# Altium footprint library MX35LF4GE4AD.PcbLib: 1 footprints
Each footprint in its own frame and in the unit in brackets; x right, y up, seen from the top. Pads: shape width x height; smd on the part's side, far side on the other; paste and mask are expansions set on the pad; w line width, h text height; cw(c..) or ccw(c..) is an arc to the next point about the centre after c.
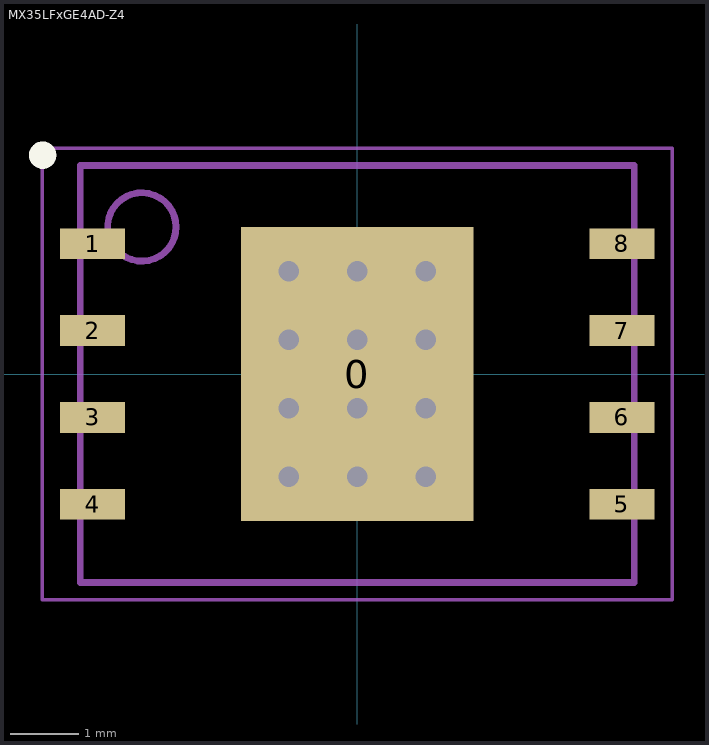
[diagram p0: the footprint, top view; thin cyan lines are the x and y axes]

## MX35LFxGE4AD-Z4 [mm] "SON127P800X80_HS-9N / SON, 8-Leads, Body 6.00x8.00mm, Pitch 1.27mm, Thermal Pad 4.30x3.40mm, IPC Medium Density"
height 0.8
pads (9):
  rect 3.4x4.3 smd paste-1.7: 0(0,0)
  rect 0.95x0.45 smd: 1(-3.87,1.905) 2(-3.87,0.635) 3(-3.87,-0.635) 4(-3.87,-1.905) 5(3.87,-1.905) 6(3.87,-0.635) 7(3.87,0.635) 8(3.87,1.905)
via -1,1.5 diameter 0.6 hole 0.3
via 0,1.5 diameter 0.6 hole 0.3
via 1,1.5 diameter 0.6 hole 0.3
via -1,0.5 diameter 0.6 hole 0.3
via 0,0.5 diameter 0.6 hole 0.3
via 1,0.5 diameter 0.6 hole 0.3
via -1,-0.5 diameter 0.6 hole 0.3
via 0,-0.5 diameter 0.6 hole 0.3
via 1,-0.5 diameter 0.6 hole 0.3
via -1,-1.5 diameter 0.6 hole 0.3
via 0,-1.5 diameter 0.6 hole 0.3
via 1,-1.5 diameter 0.6 hole 0.3
Top Overlay:
  circle w0.2: c-4.6,3.2 r0.1
Top Paste:
  rectangle: -1.595,0.815 -0.665,2.045
  rectangle: -1.595,-0.615 -0.665,0.615
  rectangle: -1.595,-2.045 -0.665,-0.815
  rectangle: -0.465,0.815 0.465,2.045
  rectangle: -0.465,-0.615 0.465,0.615
  rectangle: -0.465,-2.045 0.465,-0.815
  rectangle: 0.665,0.815 1.595,2.045
  rectangle: 0.665,-0.615 1.595,0.615
  rectangle: 0.665,-2.045 1.595,-0.815
Top Courtyard:
  lines w0.05: -4.605,-3.3 -4.605,3.3 4.605,3.3 4.605,-3.3 -4.605,-3.3
  lines w0.1: -0.5,0 0.5,0 ; 0,-0.5 0,0.5
Top Assembly:
  circle w0.1: c-3.15,2.15 r0.5
  lines w0.1: -4.05,-3.05 -4.05,3.05 4.05,3.05 4.05,-3.05 -4.05,-3.05
3D body: height 0.8, standoff 0.05, extent -4.05,-3.05 4.05,3.05